# EAGLE library part CH446Q (library joakim)
8x16 matrix analog switch chip, contains 128 analog switches, used for arbitrary routing of 8x16 signal channels. CH446 supports 4V to 12V single supply voltage, and supports +5V and -7V dual power supply voltage. The ON resistance is not greater than 65Ω. https://www.wch-ic.com/downloads/CH446DS1_PDF.html
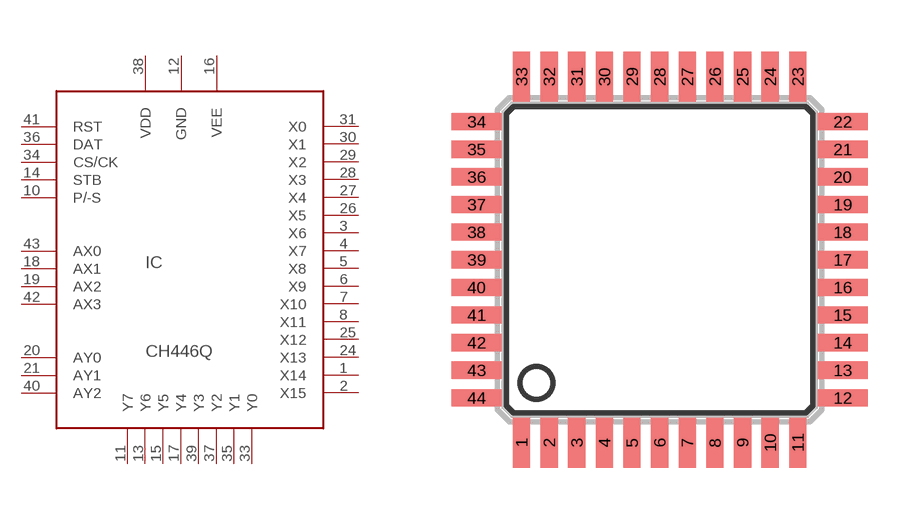
[diagram p82: symbol with the pads of LQFP-44-J; footprint LQFP-44-J]

Designator prefix IC

## CH446Q  [LQFP-44-J]
1  X14
2  X15
3  X6
4  X7
5  X8
6  X9
7  X10
8  X11
10  P/-S
11  Y7
12  GND  pwr
13  Y6
14  STB
15  Y5
16  VEE  pwr
17  Y4
18  AX1
19  AX2
20  AY0
21  AY1
24  X13
25  X12
26  X5
27  X4
28  X3
29  X2
30  X1
31  X0
33  Y0
34  CS/CK
35  Y1
36  DAT
37  Y2
38  VDD  pwr
39  Y3
40  AY2
41  RST
42  AX3
43  AX0

## Footprint LQFP-44-J (pad centres in mm)
smd 0.5 x 1.45: 1 -4,-5.3; 2 -3.2,-5.3; 3 -2.4,-5.3; 4 -1.6,-5.3; 5 -0.8,-5.3; 6 0,-5.3; 7 0.8,-5.3; 8 1.6,-5.3; 9 2.4,-5.3; 10 3.2,-5.3; 11 4,-5.3; 23 4,5.3; 24 3.2,5.3; 25 2.4,5.3; 26 1.6,5.3; 27 0.8,5.3; 28 0,5.3; 29 -0.8,5.3; 30 -1.6,5.3; 31 -2.4,5.3; 32 -3.2,5.3; 33 -4,5.3
smd 1.45 x 0.5: 12 5.3,-4; 13 5.3,-3.2; 14 5.3,-2.4; 15 5.3,-1.6; 16 5.3,-0.8; 17 5.3,0; 18 5.3,0.8; 19 5.3,1.6; 20 5.3,2.4; 21 5.3,3.2; 22 5.3,4; 34 -5.3,4; 35 -5.3,3.2; 36 -5.3,2.4; 37 -5.3,1.6; 38 -5.3,0.8; 39 -5.3,0; 40 -5.3,-0.8; 41 -5.3,-1.6; 42 -5.3,-2.4; 43 -5.3,-3.2; 44 -5.3,-4